# Altium schematic symbol library UL_STM32MP135DAG7.SchLib: 2 symbols
Pins are listed as number, name and electrical type; pins without a type are passive.

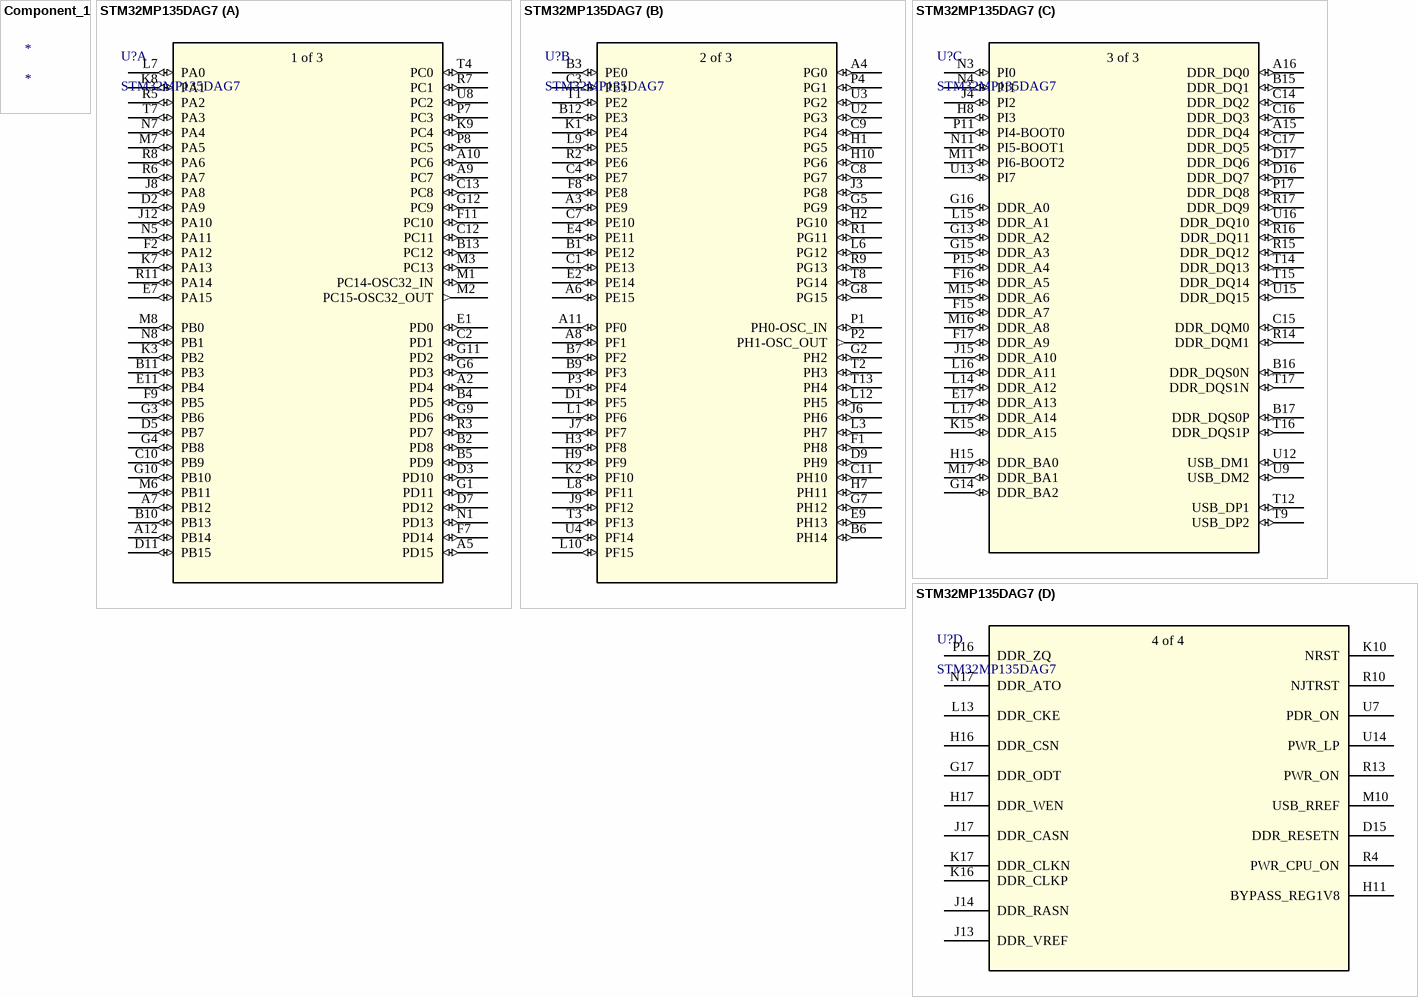
[diagram p0: symbols Component_1 to STM32MP135DAG7]

## Component_1
designator *

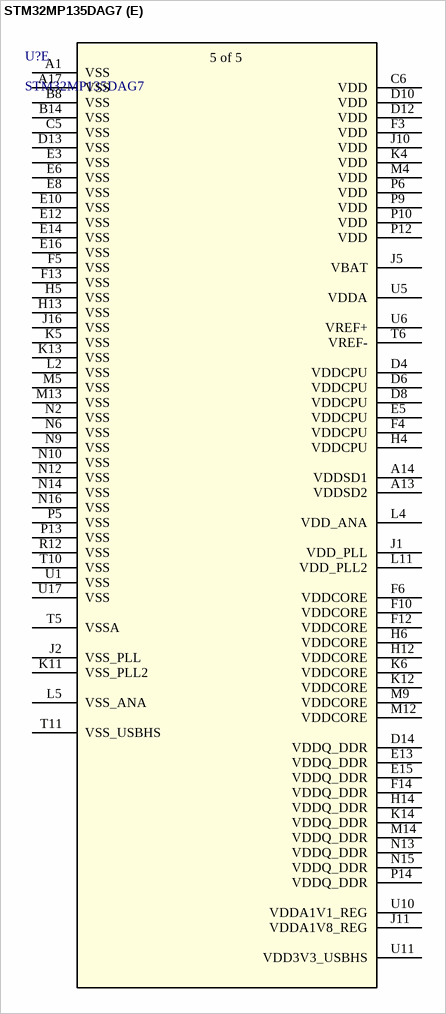
[diagram p1: symbol STM32MP135DAG7]

## STM32MP135DAG7
designator U?
No Description Available; Mfr_Name: STMicroelectronics; Copyright: Copyright (C) 2024 Ultra Librarian. All rights reserved.; Manufacturer_Part_Number: STM32MP135DAG7; RefDes: RefDes; Type: DEV
footprint TFBGA289_STM
part A pins: A2 PD4 (io), A5 PD15 (io), A7 PB12 (io), A9 PC7 (io), A10 PC6 (io), A12 PB14 (io), B2 PD8 (io), B4 PD5 (io), B5 PD9 (io), B10 PB13 (io), B11 PB3 (io), B13 PC12 (io), C2 PD1 (io), C10 PB9 (io), C12 PC11 (io), C13 PC8 (io), D2 PA9 (io), D3 PD10 (io), D5 PB7 (io), D7 PD12 (io), D11 PB15 (io), E1 PD0 (io), E7 PA15 (io), E11 PB4 (io), F2 PA12 (io), F7 PD14 (io), F9 PB5 (io), F11 PC10 (io), G1 PD11 (io), G3 PB6 (io), G4 PB8 (io), G6 PD3 (io), G9 PD6 (io), G10 PB10 (io), G11 PD2 (io), G12 PC9 (io), J8 PA8 (io), J12 PA10 (io), K3 PB2 (io), K7 PA13 (io), K8 PA1 (io), K9 PC4 (io), L7 PA0 (io), M1 PC14-OSC32_IN (io), M2 PC15-OSC32_OUT (out), M3 PC13 (io), M6 PB11 (io), M7 PA5 (io), M8 PB0 (io), N1 PD13 (io), N5 PA11 (io), N7 PA4 (io), N8 PB1 (io), P7 PC3 (io), P8 PC5 (io), R3 PD7 (io), R5 PA2 (io), R6 PA7 (io), R7 PC1 (io), R8 PA6 (io), R11 PA14 (io), T4 PC0 (io), T7 PA3 (io), U8 PC2 (io)
part B pins: A3 PE9 (io), A4 PG0 (io), A6 PE15 (io), A8 PF1 (io), A11 PF0 (io), B1 PE12 (io), B3 PE0 (io), B6 PH14 (io), B7 PF2 (io), B9 PF3 (io), B12 PE3 (io), C1 PE13 (io), C3 PE1 (io), C4 PE7 (io), C7 PE10 (io), C8 PG7 (io), C9 PG4 (io), C11 PH10 (io), D1 PF5 (io), D9 PH9 (io), E2 PE14 (io), E4 PE11 (io), E9 PH13 (io), F1 PH8 (io), F8 PE8 (io), G2 PH2 (io), G5 PG9 (io), G7 PH12 (io), G8 PG15 (io), H1 PG5 (io), H2 PG10 (io), H3 PF8 (io), H7 PH11 (io), H9 PF9 (io), H10 PG6 (io), J3 PG8 (io), J6 PH6 (io), J7 PF7 (io), J9 PF12 (io), K1 PE4 (io), K2 PF10 (io), L1 PF6 (io), L3 PH7 (io), L6 PG12 (io), L8 PF11 (io), L9 PE5 (io), L10 PF15 (io), L12 PH5 (io), P1 PH0-OSC_IN (io), P2 PH1-OSC_OUT (out), P3 PF4 (io), P4 PG1 (io), R1 PG11 (io), R2 PE6 (io), R9 PG13 (io), T1 PE2 (io), T2 PH3 (io), T3 PF13 (io), T8 PG14 (io), T13 PH4 (io), U2 PG3 (io), U3 PG2 (io), U4 PF14 (io)
part C pins: A15 DDR_DQ4 (io), A16 DDR_DQ0 (io), B15 DDR_DQ1 (io), B16 DDR_DQS0N (io), B17 DDR_DQS0P (io), C14 DDR_DQ2 (io), C15 DDR_DQM0 (io), C16 DDR_DQ3 (io), C17 DDR_DQ5 (io), D16 DDR_DQ7 (io), D17 DDR_DQ6 (io), E17 DDR_A13 (io), F15 DDR_A7 (io), F16 DDR_A5 (io), F17 DDR_A9 (io), G13 DDR_A2 (io), G14 DDR_BA2 (io), G15 DDR_A3 (io), G16 DDR_A0 (io), H8 PI3 (io), H15 DDR_BA0 (io), J4 PI2 (io), J15 DDR_A10 (io), K15 DDR_A15 (io), L14 DDR_A12 (io), L15 DDR_A1 (io), L16 DDR_A11 (io), L17 DDR_A14 (io), M11 PI6-BOOT2 (io), M15 DDR_A6 (io), M16 DDR_A8 (io), M17 DDR_BA1 (io), N3 PI0 (io), N4 PI1 (io), N11 PI5-BOOT1 (io), P11 PI4-BOOT0 (io), P15 DDR_A4 (io), P17 DDR_DQ8 (io), R14 DDR_DQM1 (io), R15 DDR_DQ12 (io), R16 DDR_DQ11 (io), R17 DDR_DQ9 (io), T9 USB_DP2 (io), T12 USB_DP1 (io), T14 DDR_DQ13 (io), T15 DDR_DQ14 (io), T16 DDR_DQS1P (io), T17 DDR_DQS1N (io), U9 USB_DM2 (io), U12 USB_DM1 (io), U13 PI7 (io), U15 DDR_DQ15 (io), U16 DDR_DQ10 (io)
part D pins: D15 DDR_RESETN, G17 DDR_ODT, H11 BYPASS_REG1V8, H16 DDR_CSN, H17 DDR_WEN, J13 DDR_VREF (power), J14 DDR_RASN, J17 DDR_CASN, K10 NRST, K16 DDR_CLKP, K17 DDR_CLKN, L13 DDR_CKE, M10 USB_RREF, N17 DDR_ATO, P16 DDR_ZQ, R4 PWR_CPU_ON, R10 NJTRST, R13 PWR_ON, U7 PDR_ON, U14 PWR_LP
part E pins: A1 VSS (power), A13 VDDSD2 (power), A14 VDDSD1 (power), A17 VSS (power), B8 VSS (power), B14 VSS (power), C5 VSS (power), C6 VDD (power), D4 VDDCPU (power), D6 VDDCPU (power), D8 VDDCPU (power), D10 VDD (power), D12 VDD (power), D13 VSS (power), D14 VDDQ_DDR (power), E3 VSS (power), E5 VDDCPU (power), E6 VSS (power), E8 VSS (power), E10 VSS (power), E12 VSS (power), E13 VDDQ_DDR (power), E14 VSS (power), E15 VDDQ_DDR (power), E16 VSS (power), F3 VDD (power), F4 VDDCPU (power), F5 VSS (power), F6 VDDCORE (power), F10 VDDCORE (power), F12 VDDCORE (power), F13 VSS (power), F14 VDDQ_DDR (power), H4 VDDCPU (power), H5 VSS (power), H6 VDDCORE (power), H12 VDDCORE (power), H13 VSS (power), H14 VDDQ_DDR (power), J1 VDD_PLL (power), J2 VSS_PLL (power), J5 VBAT, J10 VDD (power), J11 VDDA1V8_REG (power), J16 VSS (power), K4 VDD (power), K5 VSS (power), K6 VDDCORE (power), K11 VSS_PLL2 (power), K12 VDDCORE (power), K13 VSS (power), K14 VDDQ_DDR (power), L2 VSS (power), L4 VDD_ANA (power), L5 VSS_ANA (power), L11 VDD_PLL2 (power), M4 VDD (power), M5 VSS (power), M9 VDDCORE (power), M12 VDDCORE (power), M13 VSS (power), M14 VDDQ_DDR (power), N2 VSS (power), N6 VSS (power), N9 VSS (power), N10 VSS (power), N12 VSS (power), N13 VDDQ_DDR (power), N14 VSS (power), N15 VDDQ_DDR (power), N16 VSS (power), P5 VSS (power), P6 VDD (power), P9 VDD (power), P10 VDD (power), P12 VDD (power), P13 VSS (power), P14 VDDQ_DDR (power), R12 VSS (power), T5 VSSA (power), T6 VREF- (power), T10 VSS (power), T11 VSS_USBHS (power), U1 VSS (power), U5 VDDA (power), U6 VREF+ (power), U10 VDDA1V1_REG (power), U11 VDD3V3_USBHS (power), U17 VSS (power)
part A text: 1 of 3
part B text: 2 of 3
part C text: 3 of 3
part D text: 4 of 4
part E text: 5 of 5